# Altium footprint library PTV09A4015FB103.PcbLib: 1 footprints
Each footprint in its own frame and in the unit in brackets; x right, y up, seen from the top. Pads: shape width x height; smd on the part's side, far side on the other; paste and mask are expansions set on the pad; w line width, h text height; cw(c..) or ccw(c..) is an arc to the next point about the centre after c.
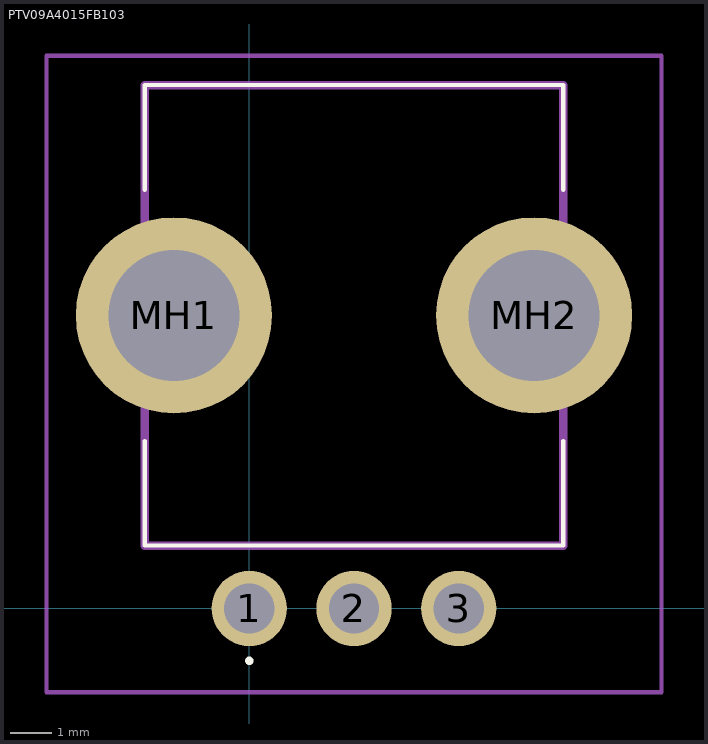
[diagram p0: the footprint, top view; thin cyan lines are the x and y axes]

## PTV09A4015FB103 [mm]
pads (5):
  round 1.8 hole 1.2: 1(0,0) 2(2.5,0) 3(5,0)
  round 4.686 hole 3.124: MH1(-1.8,7) MH2(6.8,7)
Top Overlay:
  lines w0.1: -2.5,4 -2.5,1.5 7.5,1.5 7.5,4 ; -2.5,10 -2.5,12.5 7.5,12.5 7.5,10 ; 0,-1.3 ccw(c0,-1.25) 0,-1.2 ; 0,-1.3 0,-1.3 ; 0,-1.3 cw(c0,-1.25) 0,-1.2 ; 0,-1.2 0,-1.2
Mechanical 15:
  lines w0.2: -2.5,1.5 7.5,1.5 7.5,12.5 -2.5,12.5 -2.5,1.5
Mechanical 20:
  lines w0.1: -4.843,-2 9.843,-2 9.843,13.2 -4.843,13.2 -4.843,-2
3D body "PTV09A-4020U-B103.stp": height 5.8, standoff -4.65, extent -10,-3.376 10,3.376